# Altium footprint library WIFI_ANTENNA.PcbLib: 1 footprints
Each footprint in its own frame and in the unit in brackets; x right, y up, seen from the top. Pads: shape width x height; smd on the part's side, far side on the other; paste and mask are expansions set on the pad; w line width, h text height; cw(c..) or ccw(c..) is an arc to the next point about the centre after c.
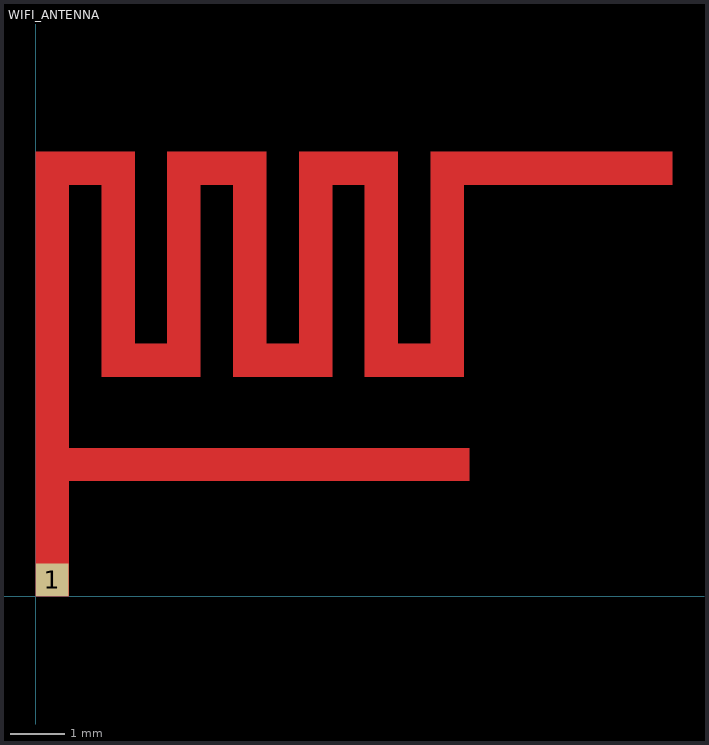
[diagram p0: the footprint, top view; thin cyan lines are the x and y axes]

## WIFI_ANTENNA [mm]
pads (1):
  rect 0.6x0.6 smd: 1(0.3,0.3)
Top Layer:
  region: 0,8.1 0,0 0.6,0 0.6,2.1 7.9,2.1 7.9,2.7 0.6,2.7 0.6,7.5 1.2,7.5 1.2,4 3,4 3,7.5 3.6,7.5 3.6,4 5.4,4 5.4,7.5 6,7.5 6,4 7.8,4 7.8,7.5 11.6,7.5 11.6,8.1 7.2,8.1 7.2,4.6 6.6,4.6 6.6,8.1 4.8,8.1 4.8,4.6 4.2,4.6 4.2,8.1 2.4,8.1 2.4,4.6 1.8,4.6 1.8,8.1
Top Solder:
  region: 0,8.1 0,0 0.6,0 0.6,2.1 7.9,2.1 7.9,2.7 0.6,2.7 0.6,7.5 1.2,7.5 1.2,4 3,4 3,7.5 3.6,7.5 3.6,4 5.4,4 5.4,7.5 6,7.5 6,4 7.8,4 7.8,7.5 11.6,7.5 11.6,8.1 7.2,8.1 7.2,4.6 6.6,4.6 6.6,8.1 4.8,8.1 4.8,4.6 4.2,4.6 4.2,8.1 2.4,8.1 2.4,4.6 1.8,4.6 1.8,8.1